# Altium schematic symbol library Schlib1.SchLib: 5 symbols
Pins are listed as number, name and electrical type; pins without a type are passive.

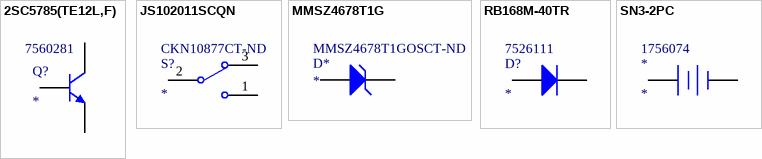
[diagram p0: symbols 2SC5785(TE12L,F) to SN3-2PC]

## 2SC5785(TE12L,F)
designator Q?  Supplier Part Number 1: 7560281
NPN Bipolar Transistor, 2 A, 10 V, 3-Pin SC-62; Manufacturer: Toshiba; Manufacturer Part Number: 2SC5785(TE12L,F); Supplier 1: RSComponents; RoHS: No; Category: Uncategorized; Stock 1: 40
footprint SOT89-150P410X160-3N (SOT89, 3-Leads, Body 4.50x2.45mm, Pitch 1.50mm, Lead Span 4.1mm, IPC Medium Density)
pins: 1 B, 2 C, 3 E

## JS102011SCQN
designator S?  Supplier Part Number 1: CKN10877CT-ND
SWITCH SLIDE SPDT 300MA 6V; Manufacturer: ITT C&K; Manufacturer Part Number: JS102011SCQN; Actuator Material: Nylon,Polyamide; Max Voltage Rating (DC): 30V; Actuator Type: Standard; Electrical Life: 5000Cycles; Contact Resistance: 70mR; Switch Function: On-On; Switch Travel: 2mm; Supplier 1: Digi-Key; RoHS: Yes; Category: Slide Switches; Stock 1: 537; Pricing 1: 1=0.73000, 10=0.70700, 25=0.68000, 100=0.59010, 250=0.53848, 500=0.50038 (USD); Mount: Surface Mount; Case/Package: SMD/SMT; Contact Material: Copper Alloy; Contact Plating: Silver; Housing Material: Nylon; Min Operating Temperature: -40°C; Max Operating Temperature: 85°C; Throw Configuration: SPDT; Termination: Gull Wing; Package Quantity: 4000; Packaging: Tape and Reel; Voltage Rating (DC): 6V; Max Current Rating: 300mA; Orientation: Straight; Current Rating: 300mA; Length: 8.5mm; Depth: 7.5mm; Actuator Length: 2mm; Radiation Hardening: No; ComponentLink1URL: https://datasheet.ciiva.com/8625/js-9dec14-8625469.pdf?src-supplier=Avnet; ComponentLink1Description: https://datasheet.ciiva.com/8625/js-9dec14-8625469.pdf?src-supplier=Avnet
pins: 1, 2, 3

## MMSZ4678T1G
designator D*  Supplier Part Number 1: MMSZ4678T1GOSCT-ND
ON SEMICONDUCTOR         MMSZ4678T1G.             ZENER DIODE, 500mW, 1.8V, SOD-123; Tolerance: 5%; Max Reverse Leakage Current: 7.5uA; Element Configuration: Single; Forward Voltage: 900mV; Zener Current: 50uA; Max Breakdown Voltage: 1.89V; ESD Protection: Yes; Supplier 1: Digi-Key; Manufacturer: ON Semiconductor; Manufacturer Part Number: MMSZ4678T1G; RoHS: Yes; Category: Zener Diodes; Stock 1: 39023; Pricing 1: 1=0.21000, 10=0.19300, 100=0.08090, 500=0.06350, 1000=0.04410 (USD); Case/Package: SOD-123-2; Number of Pins: 2; Material: Plastic; Contact Plating: Tin,Matte; Min Operating Temperature: -55°C; Max Operating Temperature: 150°C; Packaging: Tape and Reel; Max Power Dissipation: 500mW; Package Quantity: 1; Zener Voltage: 1.8V; Voltage Tolerance: 5%; Power Dissipation: 500mW; Test Current: 50uA; Working Voltage: 1.8V; Max Reverse Current: 50uA; Termination: SMD/SMT; Voltage Rating (DC): 1.8V; Power Rating: 500mW; Breakdown Voltage: 1.89V; Length: 0.111inch; Width: 0.071inch; Height: 0.053inch; Radiation Hardening: No; Lead Free: Lead Free; REACH SVHC: No SVHC; ComponentLink1URL: https://datasheet.ciiva.com/895/mmsz4678t1-d-895010.pdf?src-supplier=Digi-Key; ComponentLink1Description: https://datasheet.ciiva.com/895/mmsz4678t1-d-895010.pdf?src-supplier=Digi-Key; ComponentLink2URL: https://datasheet.ciiva.com/18435/70099545-18435515.pdf?src-supplier=Allied+Electronics; ComponentLink2Description: https://datasheet.ciiva.com/18435/70099545-18435515.pdf?src-supplier=Allied+Electronics; ComponentLink3URL: https://datasheet.ciiva.com/8346/mmsz4678t1-d-8346046.pdf?src-supplier=Avnet; ComponentLink3Description: https://datasheet.ciiva.com/8346/mmsz4678t1-d-8346046.pdf?src-supplier=Avnet; ComponentLink4URL: https://datasheet.ciiva.com/22697/1796559-22697910.pdf?src-supplier=Element14; ComponentLink4Description: https://datasheet.ciiva.com/22697/1796559-22697910.pdf?src-supplier=Element14; ComponentLink5URL: https://datasheet.ciiva.com/8026/mmsz4678t1-d-8026830.pdf?src-supplier=Element14; ComponentLink5Description: https://datasheet.ciiva.com/8026/mmsz4678t1-d-8026830.pdf?src-supplier=Element14; ComponentLink6URL: https://datasheet.ciiva.com/895/mmsz4678t1-d-895011.pdf?src-supplier=Digi-Key; ComponentLink6Description: https://datasheet.ciiva.com/895/mmsz4678t1-d-895011.pdf?src-supplier=Digi-Key; ComponentLink7URL: https://datasheet.ciiva.com/895/mmsz4678t1-d-895012.pdf?src-supplier=Digi-Key; ComponentLink7Description: https://datasheet.ciiva.com/895/mmsz4678t1-d-895012.pdf?src-supplier=Digi-Key
pins: 1 K, 2 A

## RB168M-40TR
designator D?  Supplier Part Number 1: 7526111
DIODE SCHOTTKY 40V 1A PMDU; Manufacturer: Rohm; Manufacturer Part Number: RB168M-40TR; Max Reverse Current: 50nA; Element Configuration: Single; Forward Voltage: 600mV; Max Forward Surge Current (Ifsm): 30A; Supplier 1: RSComponents; RoHS: Yes; Category: Rectifier Diodes; Stock 1: 1110; Mount: Surface Mount; Case/Package: SOD-123-2; Number of Pins: 2; Weight: 0.000363oz; Min Operating Temperature: -55°C; Max Operating Temperature: 150°C; Packaging: Tape and Reel; Forward Current: 1A; Package Quantity: 3000; Termination: SMD/SMT; Reverse Voltage (DC): 40V; Average Rectified Current: 1A; Max Repetitive Reverse Voltage (Vrrm): 40V; Peak Non-Repetitive Surge Current: 30A; Max Reverse Voltage (DC): 40V; Length: 2.6mm; Width: 1.6mm; Height: 0.8mm; Radiation Hardening: No; Lead Free: Lead Free; ComponentLink1URL: https://datasheet.ciiva.com/29592/rb168m-40-29592360.pdf?src-supplier=Digi-Key; ComponentLink1Description: https://datasheet.ciiva.com/29592/rb168m-40-29592360.pdf?src-supplier=Digi-Key; ComponentLink2URL: https://datasheet.ciiva.com/14920/diodekousei-14920856.pdf?src-supplier=Digi-Key; ComponentLink2Description: https://datasheet.ciiva.com/14920/diodekousei-14920856.pdf?src-supplier=Digi-Key; ComponentLink3URL: https://datasheet.ciiva.com/29592/diodekousei-29592361.pdf?src-supplier=Digi-Key; ComponentLink3Description: https://datasheet.ciiva.com/29592/diodekousei-29592361.pdf?src-supplier=Digi-Key
footprint SODFL350X90-2N (SODFL, 2-Leads, Body 1.60x3.50mm, IPC Medium Density)
pins: 1 A, 2 K

## SN3-2PC
designator *  Supplier Part Number 1: 1756074
Battery Holder with Lead Wire / Pin / Snap Terminal; Manufacturer: Takachi; Manufacturer Part Number: SN3-2PC; Supplier 1: RSComponents; RoHS: No; Stock 1: 65
pins: 1 +, 2 -